# Altium schematic symbol library Diodes.SchLib: 24 symbols
Pins are listed as number, name and electrical type; pins without a type are passive.

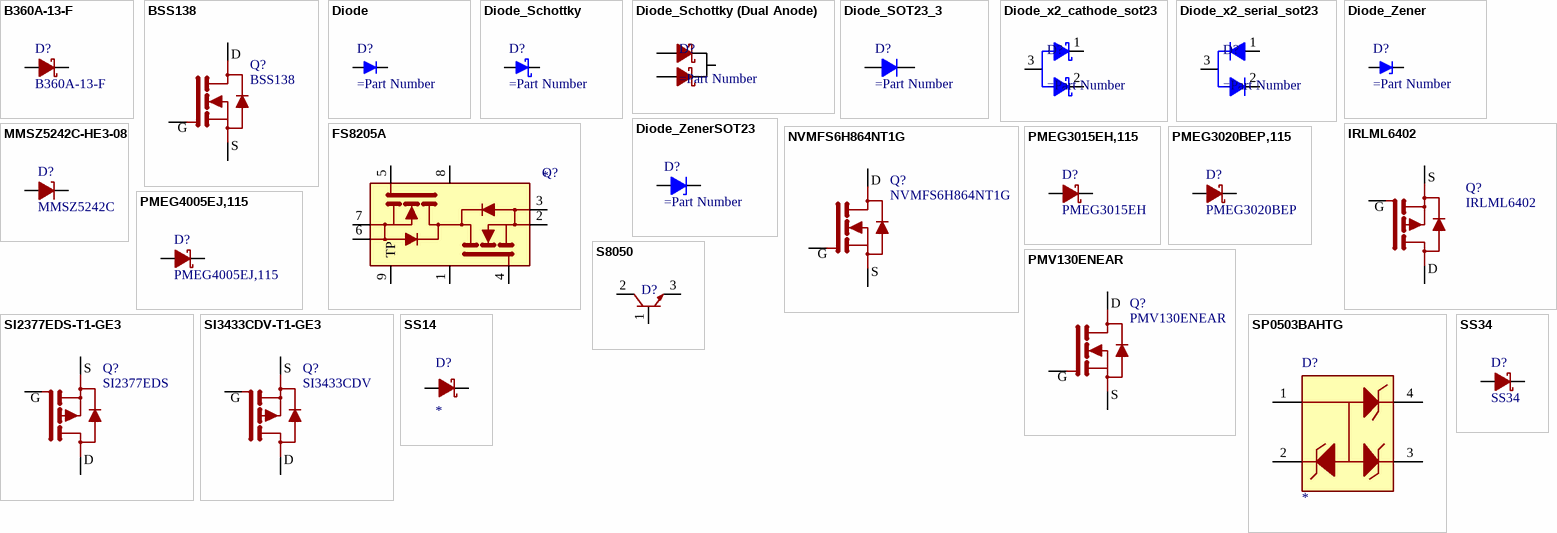
[diagram p0: symbols B360A-13-F to SS34]

## B360A-13-F
designator D?
Current - Average Rectified (Io) 3A / Speed Fast Recovery =< 500ns, > 200mA (Io) / Voltage - DC Reverse (Vr) (Max) 50V / Voltage - Forward (Vf) (Max) @ If 500mV @ 3A / Current - Reverse Leakage @ Vr 500µA @ 40V; Manufacturer: Diodes Incorporated; Case: DO-214AC, SMA; Supplier 1: RSComponents; ComponentLink1Description: HelpURL; ComponentLink1URL: https://www.diodes.com/assets/Datasheets/ds30891.pdf; Supplier Part Number 1: 7384796
footprint DO-214AC, SMA
pins: 1 C, 2 A

## BSS138
designator Q?
N-Channel 50V 220mA (Ta) 360mW (Ta) / Surface Mount SOT-23-3; Manufacturer: ON Semiconductor; Case: SOT-23; FET Type: N-Channel 50V 220mA; Supplier 1: Digi-Key; Supplier Part Number 1: BSS138CT-ND; ComponentLink1Description: HelpURL; ComponentLink1URL: https://static.chipdip.ru/lib/156/DOC000156783.pdf
footprint SOT-23-3
pins: 1 G, 2 S, 3 D

## Diode
designator D?
pins: 1 C, 2 A

## Diode_Schottky
designator D?
pins: 1 C, 2 A

## Diode_Schottky (Dual Anode)
designator D?
pins: 1 A, 2 A, 3 C

## Diode_SOT23_3
designator D?
pins: 1 A, 3 C

## Diode_x2_cathode_sot23
designator D?
pins: 1 C1, 2 C2, 3 A

## Diode_x2_serial_sot23
designator D?
pins: 1 C1, 2 C2, 3 A

## Diode_Zener
designator D?
pins: 1 C, 2 A

## Diode_ZenerSOT23
designator D?
pins: 1 A, 3 C

## FS8205A
designator Q?
Drain Sourse 20V / Gate Sourse  12V / Continuous Drain Current 6A / Pulsed Drain Current 25A; Manufacturer: Fortune Semicon; ComponentLink1Description: Stock; ComponentLink1URL: https://www.chipdip.ru/product1/8004289457; ComponentLink2Description: HelpURL; ComponentLink2URL: https://ic-fortune.com/upload/Download/FS8205A-DS-12_EN.pdf; Case: TSSOP-8; Supplier 1: ChipDip; Supplier Part Number: 8004289457
footprint TSOP65P640X120_HS-9N (TSOP, 8-Leads, Body 2,93x4,40mm, Pitch 0,65mm, Thermal Pad 2,50x4,00mm, IPC Medium Density)
pins: 1, 2, 3, 4, 5, 6, 7, 8, 9 TP (power)

## IRLML6402
designator Q?
P-Channel 20V 3.7A (Ta) 1.3W (Ta) Surface Mount Micro3™/SOT-23; Manufacturer: Infineon Technologies; Supplier 1: Digi-Key; Supplier Part Number 1: IRLML6402PBFCT-ND; Case: SOT-23; FET Type: P-Channel 20V 3.7A; ComponentLink1Description: HelpURL; ComponentLink1URL: https://static.chipdip.ru/lib/144/DOC000144675.pdf
footprint SOT-23-3
pins: 1 G, 2 S, 3 D

## MMSZ5242C-HE3-08
designator D?, comment MMSZ5242C
Zener Diode 12 V 500 mW ±2% Surface Mount SOD-123; Manufacturer: Vishay General Semiconductor - Diodes Division; Voltage - Zener (Nom) (Vz): 12V; Power - Max: 500mW; Case: SOD123; ComponentLink1Description: HelpURL; ComponentLink1URL: https://www.vishay.com/docs/85774/mmsz5225.pdf; Supplier 1: Avnet; Supplier Part Number 1: MMSZ5242C-HE3-08
footprint SOD123
pins: 1 K, 2 A

## NVMFS6H864NT1G
designator Q?
N-Channel 80 V 6.7A (Ta), 21A (Tc) 3.5W (Ta), 33W (Tc) Surface Mount 5-DFN (5x6) (8-SOFL); Manufacturer: ON Semiconductor; Case: 8-SOFL; FET Type: N-Channel 80 V 6.7A; ComponentLink1Description: HelpURL; ComponentLink1URL: https://www.onsemi.com/pdf/datasheet/nvmfs6h864n-d.pdf; Supplier 1: Newark; Supplier Part Number 1: 84AC7302
footprint 8-SOFL
pins: D, G, S

## PMEG3015EH,115
designator D?, comment PMEG3015EH
Diode Schottky 30 V 1.5A (DC) Surface Mount SOD-123F; Manufacturer: Nexperia USA Inc.; Case: SOD-123F; FET Type: Diode Schottky 30V 1.5A; ComponentLink1Description: HelpURL; ComponentLink1URL: https://assets.nexperia.com/documents/data-sheet/PMEG3015EH_EJ.pdf; Supplier 1: Digi-Key; Supplier Part Number 1: 1727-3871-1-ND
footprint SOT-123F
pins: 1 K, 2 A

## PMEG3020BEP,115
designator D?, comment PMEG3020BEP
Diode Schottky 30 V 2A Surface Mount CFP5; Manufacturer: Nexperia USA Inc.; Case: SOD128; FET Type: Diode Schottky 30 V 2A; Supplier 1: Digi-Key; ComponentLink1Description: HelpURL; ComponentLink1URL: https://assets.nexperia.com/documents/data-sheet/PMEG3020BEP.pdf; Supplier Part Number 1: 1727-5202-1-ND
footprint SOD128 (SODFL, 2-Leads, Body 2,50x4,70mm, IPC Medium Density)
pins: 1 K, 2 A

## PMEG4005EJ,115
designator D?
Diode Schottky 40 V 500mA / (DC) Surface Mount SOD-323F; Manufacturer: Nexperia USA Inc.; Case: SOD-323F; FET Type: Diode Schottky 40 V 500mA; ComponentLink1Description: HelpURL; ComponentLink1URL: https://assets.nexperia.com/documents/data-sheet/PMEGXX05EH_EJ_SER.pdf; Supplier 1: Newark; Supplier Part Number 1: 70R7735
footprint SOD-323F
pins: 1 C, 2 A

## PMV130ENEAR
designator Q?
N-Channel 40 V 2.1A (Ta) 460mW (Ta), 5W (Tc) Surface Mount TO-236AB; Manufacturer: Nexperia USA Inc.; Case: SOT-23; FET Type: N-Channel 40V 2.1A; ComponentLink1Description: HelpURL; ComponentLink1URL: https://assets.nexperia.com/documents/data-sheet/PMV130ENEA.pdf; Supplier 1: Digi-Key; Supplier Part Number 1: 1727-2299-1-ND
footprint SOT-23-3
pins: 1 G, 2 S, 3 D

## S8050
designator D?  (value not drawn)
Current - Collector (Ic) (Max) 1.5A / Voltage - Collector Emitter Breakdown (Max) 25V / Power - Max 625mW; Manufacturer: Micro Commercial Co; Supplier 1: Digi-Key; Supplier Part Number 1: MMSS8050-H-TPMSCT-ND; Case: SOT23-3
footprint SOT23-3 NPN
pins: 1 B, 2 C, 3 E

## SI2377EDS-T1-GE3
designator Q?, comment SI2377EDS
P-Channel 20 V 4.4A (Tc) 1.25W (Ta), 1.8W (Tc) Surface Mount SOT-23-3 (TO-236); Manufacturer: Vishay Siliconix; Case: SOT-23-3; FET Type: P-Channel 20 V 4.4A; ComponentLink1Description: HelpURL; ComponentLink1URL: https://www.vishay.com/docs/65905/si2377eds.pdf; Supplier 1: Digi-Key; Supplier Part Number 1: SI2377EDS-T1-GE3
footprint SOT-23-3
pins: 1 G, 2 S, 3 D

## SI3433CDV-T1-GE3
designator Q?, comment SI3433CDV
P-Channel 20 V 6A (Tc) 1.6W (Ta), 3.3W (Tc) Surface Mount 6-TSOP; Manufacturer: Vishay Siliconix; Case: 6-TSOP; FET Type: P-Channel 20 V 6A; ComponentLink1Description: HelpURL; ComponentLink1URL: https://www.vishay.com/docs/68803/si3433cdv.pdf; Supplier 1: Digi-Key; Supplier Part Number 1: SI3433CDV-T1-GE3CT-ND
footprint 6-TSOP
pins: D, G, S

## SP0503BAHTG
designator D?
TVS Diode Array, 30 pF, 30 KV, -40 to 85 degC, 4-Pin SOT143, RoHS, Tape and Reel; Manufacturer: Littelfuse; Reverse Stand-off Voltage: 5.5(Min)V; Supplier 1: Digi-Key; Supplier Part Number 1: F2715CT-ND; Case: SOT-143
footprint SOT143
pins: 1, 2, 3, 4

## SS14
designator D?
Diode Schottky 40V 1A / Fast Recovery =< 500ns, > 200mA (Io) / Voltage - Forward (Vf) (Max) 600mV @ 1A / Current - Reverse Leakage 500µA @ 40V; Manufacturer: Micro Commercial Co; Supplier 1: Digi-Key; Supplier Part Number 1: SS14CT-ND; Case: DO-214AC, SMA
footprint DO-214AC, SMA
pins: 1 C, 2 A

## SS34
designator D?
Current - Average Rectified (Io) 3A / Speed Fast Recovery =< 500ns, > 200mA (Io) / Voltage - DC Reverse (Vr) (Max) 40V / Voltage - Forward (Vf) (Max) @ If 500mV @ 3A / Current - Reverse Leakage @ Vr 500µA @ 40V; Manufacturer: Vishay Semiconductor Diodes Division; Case: DO214AB; Supplier 1: Newark; Supplier Part Number 1: 90R9194
footprint SMA
pins: 1 C, 2 A